# EAGLE library part EXB-A10P391J (library GROUND-STATION-POWER-BOARD)
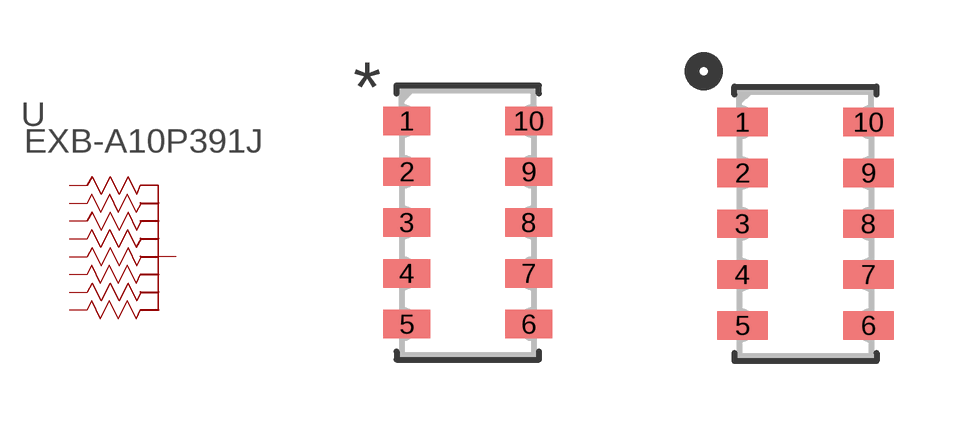
[diagram p9: symbol with the pads of C_ARRAY_EXBA; footprints C_ARRAY_EXBA, C_ARRAY_EXBA-M]

Designator prefix U

## EXB-A10P391J (MANUFACTURER_PART_NUMBER: EXBA10P391J; VENDOR: Panasonic)  [C_ARRAY_EXBA]
1  11  pas
2  22  pas
3  33  pas
4  44  pas
5  55  pas
6  66  pas
7  77  pas
8  88  pas
9  99  pas
10  55  pas

## EXB-A10P391JC_ARRAY_EXBA-M (MANUFACTURER_PART_NUMBER: EXBA10P391J; VENDOR: Panasonic)  [C_ARRAY_EXBA-M]
Pads as for C_ARRAY_EXBA

## EXB-A10P391JC_ARRAY_EXBA-L (MANUFACTURER_PART_NUMBER: EXBA10P391J; VENDOR: Panasonic)  [C_ARRAY_EXBA-L]
Pads as for C_ARRAY_EXBA

## Footprint C_ARRAY_EXBA (pad centres in mm)
smd 1.168 x 0.711: 1 -1.524,2.54; 2 -1.524,1.27; 3 -1.524,0; 4 -1.524,-1.27; 5 -1.524,-2.54; 6 1.524,-2.54; 7 1.524,-1.27; 8 1.524,0; 9 1.524,1.27; 10 1.524,2.54

## Footprint C_ARRAY_EXBA-M (pad centres in mm)
smd 1.27 x 0.711: 1 -1.575,2.54; 2 -1.575,1.27; 3 -1.575,0; 4 -1.575,-1.27; 5 -1.575,-2.54; 6 1.575,-2.54; 7 1.575,-1.27; 8 1.575,0; 9 1.575,1.27; 10 1.575,2.54

## Footprint C_ARRAY_EXBA-L (pad centres in mm)
smd 1.067 x 0.711: 1 -1.473,2.54; 2 -1.473,1.27; 3 -1.473,0; 4 -1.473,-1.27; 5 -1.473,-2.54; 6 1.473,-2.54; 7 1.473,-1.27; 8 1.473,0; 9 1.473,1.27; 10 1.473,2.54